# Altium schematic symbol library RT9742SNGV.SchLib: 1 symbol
Pins are listed as number, name and electrical type; pins without a type are passive.

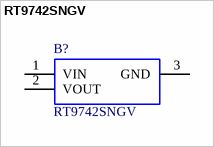
[diagram p0: symbol RT9742SNGV]

## RT9742SNGV
designator B?
IC PWR SWITCH N-CHAN 1:1 SOT23-3; Manufacturer_Name: RICHTEK; Geometry.Height: 1.295mm; Manufacturer_Part_Number: RT9742SNGV; Mouser Part Number: 835-RT9742SNGV; Mouser Price/Stock: https://www.mouser.co.uk/ProductDetail/Richtek/RT9742SNGV?qs=amGC7iS6iy9IuhGfX55LJA%3D%3D; Arrow Part Number: *; Arrow Price/Stock: *; Datasheet Link: https://datasheet.lcsc.com/szlcsc/Richtek-Tech-RT9742ANGJ5F_C147955.pdf
footprint SOT95P279X130-3N
pins: 1 VIN, 2 VOUT, 3 GND